# EAGLE library part HWPROGUSB_PROGRAMMER_PN61729-S (library HWProgUSB)
BERG USB connector
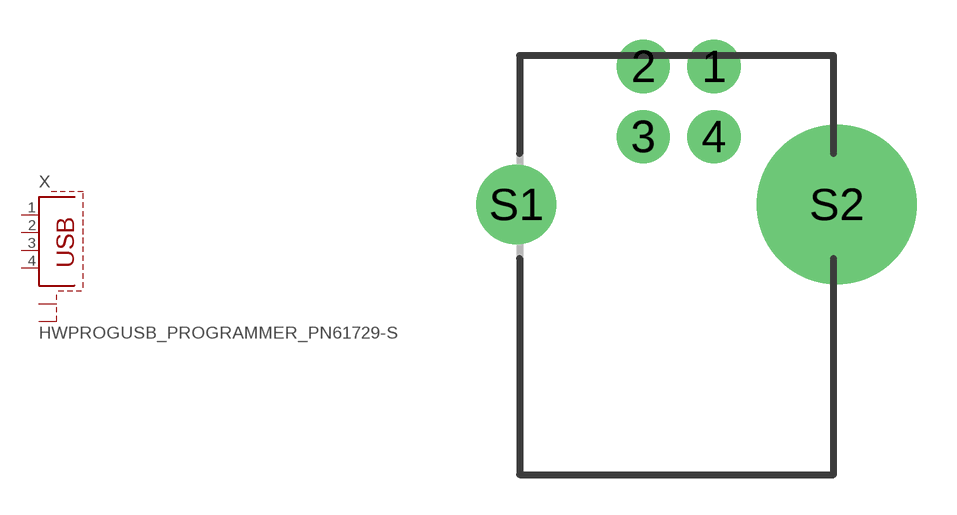
[diagram p1: symbol with the pads of HWPROGUSB_PROGRAMMER_PN61729-S; footprint HWPROGUSB_PROGRAMMER_PN61729-S]

Designator prefix X

## HWPROGUSB_PROGRAMMER_PN61729-S  [HWPROGUSB_PROGRAMMER_PN61729-S]
1  1  pas
2  2  pas
3  3  pas
4  4  pas
S1  S1  pas
S2  S2  pas

## Footprint HWPROGUSB_PROGRAMMER_PN61729-S (pad centres in mm)
USB connector with shield
drill 1 pad 2: 1 1.409,5.186; 2 -1.25,5.186; 3 -1.25,2.551; 4 1.409,2.551
drill 1.5 pad 3: S1 -6.02,0
drill 1.5 pad 6: S2 6.02,0